# EAGLE library part TDA8589XJ (library Audio-Power-amlifier)
I2C-bus controlled 4 ´ 45 Watt power amplifier and multiple voltage regulator
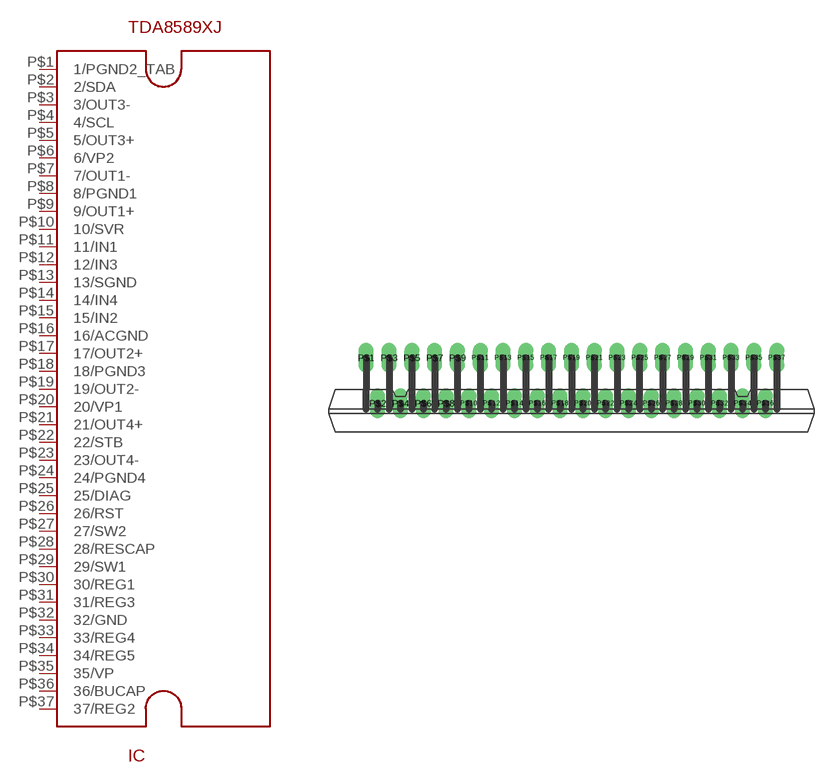
[diagram p42: symbol with the pads of SOT725-1; footprint SOT725-1]

Designator prefix IC

## TDA8589XJ  [SOT725-1]
P$1  1/PGND2_TAB  pwr
P$2  2/SDA
P$3  3/OUT3-  out
P$4  4/SCL
P$5  5/OUT3+  out
P$6  6/VP2  pwr
P$7  7/OUT1-  out
P$8  8/PGND1  pwr
P$9  9/OUT1+  out
P$10  10/SVR
P$11  11/IN1  in
P$12  12/IN3  in
P$13  13/SGND  pwr
P$14  14/IN4  in
P$15  15/IN2  in
P$16  16/ACGND  pwr
P$17  17/OUT2+  out
P$18  18/PGND3  pwr
P$19  19/OUT2-  out
P$20  20/VP1  pwr
P$21  21/OUT4+  out
P$22  22/STB
P$23  23/OUT4-  out
P$24  24/PGND4  pwr
P$25  25/DIAG
P$26  26/RST
P$27  27/SW2
P$28  28/RESCAP
P$29  29/SW1
P$30  30/REG1
P$31  31/REG3
P$32  32/GND  pwr
P$33  33/REG4
P$34  34/REG5
P$35  35/VP  pwr
P$36  36/BUCAP
P$37  37/REG2

## Footprint SOT725-1 (pad centres in mm)
drill 0.8 long: P$1 -18,4; P$2 -17,0; P$3 -16,4; P$4 -15,0; P$5 -14,4; P$6 -13,0; P$7 -12,4; P$8 -11,0; P$9 -10,4; P$10 -9,0; P$11 -8,4; P$12 -7,0; P$13 -6,4; P$14 -5,0; P$15 -4,4; P$16 -3,0; P$17 -2,4; P$18 -1,0; P$19 0,4; P$20 1,0; P$21 2,4; P$22 3,0; P$23 4,4; P$24 5,0; P$25 6,4; P$26 7,0; P$27 8,4; P$28 9,0; P$29 10,4; P$30 11,0; P$31 12,4; P$32 13,0; P$33 14,4; P$34 15,0; P$35 16,4; P$36 17,0; P$37 18,4